# Altium schematic symbol library schematic_library.SchLib: 31 symbols
Pins are listed as number, name and electrical type; pins without a type are passive.

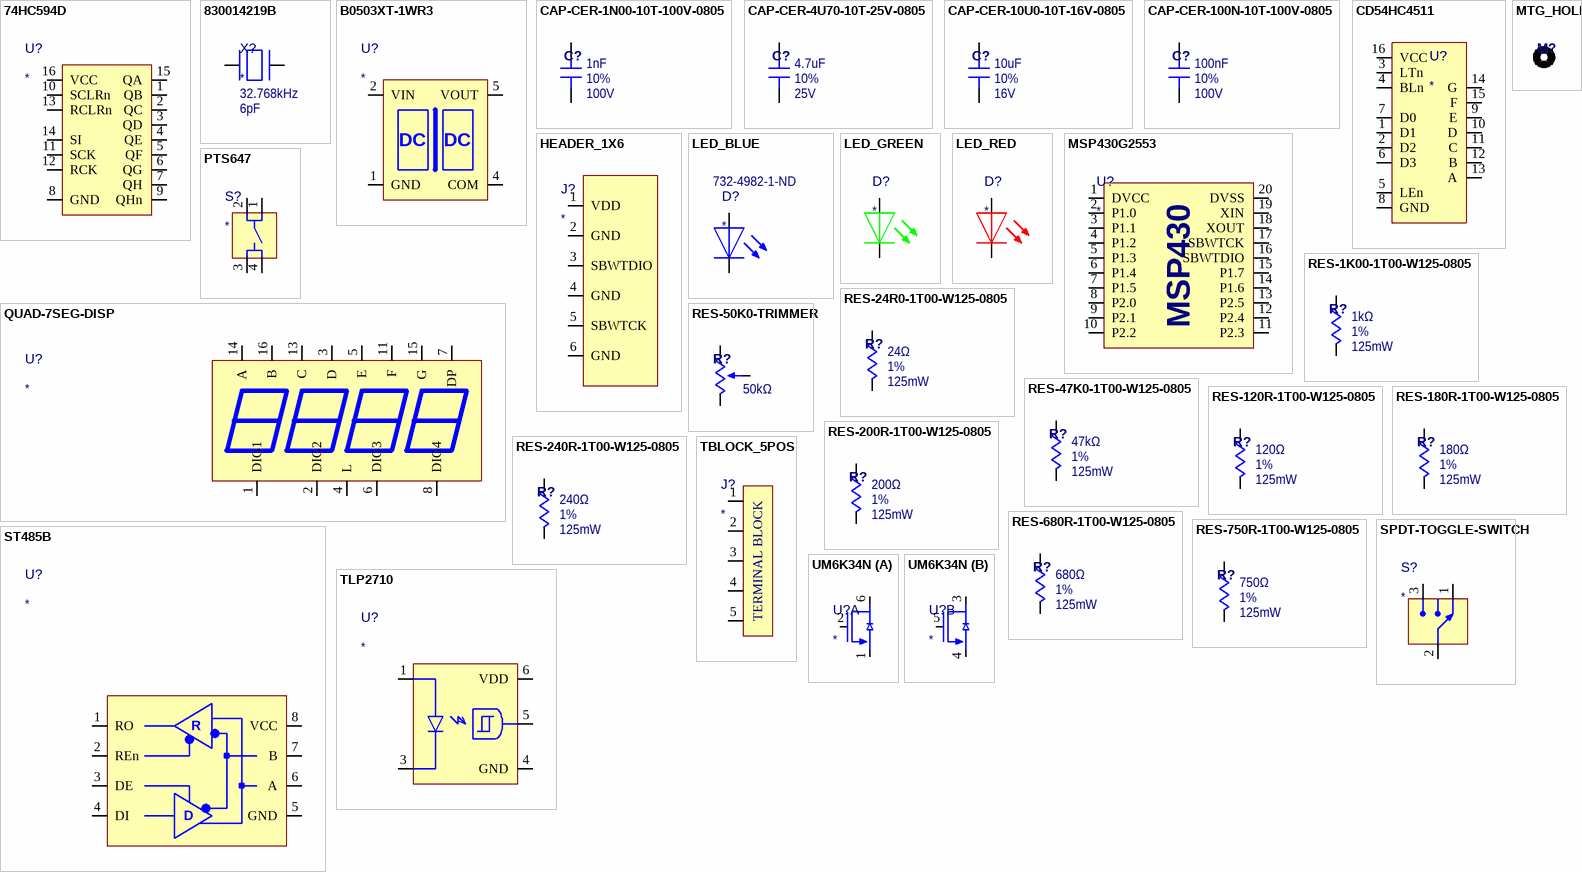
[diagram p0: symbols 74HC594D to UM6K34N]

## 74HC594D
designator U?
Shift Register, 8-Bit; Supplier 1: Digi-Key; Supplier Part Number 1: 74HC594DCT-ND
footprint 74HC594D_SOIC-16 (SOIC, 16-Leads, Body 9.95x3.90mm, Pitch 1.27mm, IPC Low Density)
pins: 1 QB, 2 QC, 3 QD, 4 QE, 5 QF, 6 QG, 7 QH, 8 GND, 9 QHn, 10 SCLRn, 11 SCK, 12 RCK, 13 RCLRn, 14 SI, 15 QA, 16 VCC

## 830014219B
designator X?  Capacitance: 6pF  Frequency: 32.768kHz
32.768kHz Tuning Fork Crystal, 6pF; Supplier 1: Digi-Key; Supplier Part Number 1: 1923-830014219B-ND
footprint CRYSTAL_THT_2x6
pins: 1, 2

## B0503XT-1WR3
designator U?
Isolated DC/DC, 5Vin, 3.3Vout, 300mA; Supplier 1: Digi-Key; Supplier Part Number 1: 2725-B0503XT-1WR3-ND
footprint B05_XT-1WR3 (CFP, 8-Leads, Body 13.70x8.75mm (max), Pitch 2.54mm, IPC Low Density)
pins: 1 GND, 2 VIN, 4 COM, 5 VOUT, 8 NC hidden
text: DC

## CAP-CER-1N00-10T-100V-0805
designator C?  value 1nF  Voltage: 100V  Tolerance: 10%  (hidden comment: *)
CAP, CER, 1nF ±10%, 100V, 0805; Supplier 1: Digi-Key; Supplier Part Number 1: 732-12102-1-ND
footprint C0805
pins: 1, 2

## CAP-CER-4U70-10T-25V-0805
designator C?  value 4.7uF  Voltage: 25V  Tolerance: 10%  (hidden comment: *)
CAP, CER, 4.7uF ±10%, 25V, 0805; Supplier 1: Digi-Key; Supplier Part Number 1: 1276-2969-1-ND
footprint C0805
pins: 1, 2

## CAP-CER-10U0-10T-16V-0805
designator C?  value 10uF  Voltage: 16V  Tolerance: 10%  (hidden comment: *)
CAP, CER, 10uF ±10%, 16V, 0805; Supplier 1: Digi-Key; Supplier Part Number 1: 1276-2872-1-ND
footprint C0805
pins: 1, 2

## CAP-CER-100N-10T-100V-0805
designator C?  value 100nF  Voltage: 100V  Tolerance: 10%  (hidden comment: *)
CAP, CER, 100nF ±10%, 100V, 0805; Supplier 1: Digi-Key; Supplier Part Number 1: 732-12244-1-ND
footprint C0805
pins: 1, 2

## CD54HC4511
designator U?
BCD Decoder, 7-Segment Display Driver; Supplier 1: Digi-Key; Supplier Part Number 1: 296-CD74HC4511MTCT-ND
footprint CD54HC4511_SOIC-16 (SOIC, 16-Leads, Body 9.90x3.90mm, Pitch 1.27mm, IPC Low Density)
pins: 1 D1, 2 D2, 3 LTn, 4 BLn, 5 LEn, 6 D3, 7 D0, 8 GND, 9 E, 10 D, 11 C, 12 B, 13 A, 14 G, 15 F, 16 VCC

## HEADER_1X6
designator J?
Header, 1-Row, 6-Position
footprint Header_1x6
pins: 1 VDD, 2 GND, 3 SBWTDIO, 4 GND, 5 SBWTCK, 6 GND

## LED_BLUE
designator D?  Supplier Part Number 1: 732-4982-1-ND
Blue LED Indicator 0805; Supplier 1: Digi-Key
footprint D0805
pins: 1, 2

## LED_GREEN
designator D?
Green LED Indicator 0805; Supplier 1: Digi-Key; Supplier Part Number 1: 732-4983-1-ND
footprint D0805
pins: 1, 2

## LED_RED
designator D?
Red LED Indicator 0805; Supplier 1: Digi-Key; Supplier Part Number 1: 732-4984-1-ND
footprint D0805
pins: 1, 2

## MSP430G2553
designator U?
MSP430 16-BIT, 16KB FLASH, 20-TSSOP; Supplier 1: Digi-Key; Supplier Part Number 1: 296-28430-1-ND
footprint MSP430G2553_TSSOP-20 (TSOP, 20-Leads, Body 6.50x4.40mm, Pitch 0.65mm, IPC Low Density)
pins: 1 DVCC, 2 P1.0, 3 P1.1, 4 P1.2, 5 P1.3, 6 P1.4, 7 P1.5, 8 P2.0, 9 P2.1, 10 P2.2, 11 P2.3, 12 P2.4, 13 P2.5, 14 P1.6, 15 P1.7, 16 SBWTDIO, 17 SBWTCK, 18 XOUT, 19 XIN, 20 DVSS
text: MSP430

## MTG_HOLE
designator M?  (value not drawn)  (no BOM)
Mounting Hole
footprint MTG_HOLE_No4

## PTS647
designator S?
PTS647 Series Tactile Switch; Supplier 1: Digi-Key; Supplier Part Number 1: PTS647SN70SMTR2LFSCT-ND
footprint PTS647
pins: 1, 2, 3, 4

## QUAD-7SEG-DISP
designator U?
Quad 7-Segment Display, Common Cathode; Supplier 1: Digi-Key; Supplier 2: Digi-Key; Supplier Part Number 2: 160-1547-5-ND; Supplier Part Number 1: 160-1551-5-ND
footprint LTC-4727 (Four Digit, Seven Segment Display)
pins: 1 DIG1, 2 DIG2, 3 D, 4 L, 5 E, 6 DIG3, 7 DP, 8 DIG4, 9 NC hidden, 11 F, 13 C, 14 A, 15 G, 16 B

## RES-1K00-1T00-W125-0805
designator R?  value 1kΩ  Tolerance: 1%  Power: 125mW  (hidden comment: *)
RES, 1.00kΩ ±1.00%, 125mW, 0805; Supplier 1: Digi-Key; Supplier Part Number 1: RMCF0805FT1K00CT-ND
footprint R0805
pins: 1, 2

## RES-24R0-1T00-W125-0805
designator R?  value 24Ω  Tolerance: 1%  Power: 125mW  (hidden comment: *)
RES, 24Ω ±1.00%, 125mW, 0805; Supplier 1: Digi-Key; Supplier Part Number 1: 541-24.0CCT-ND
footprint R0805
pins: 1, 2

## RES-47K0-1T00-W125-0805
designator R?  value 47kΩ  Tolerance: 1%  Power: 125mW  (hidden comment: *)
RES, 47.0kΩ ±1.00%, 125mW, 0805; Supplier 1: Digi-Key; Supplier Part Number 1: A129769CT-ND
footprint R0805
footprint R0805
pins: 1, 2

## RES-50K0-TRIMMER
designator R?  value 50kΩ  (hidden comment: *)
50kOhm Thumbwheel Potentiometer; Supplier 1: Digi-Key; Supplier Part Number 1: 3352T-503LF-ND
footprint 3352T_Trimpot
pins: 1, 2, 3

## RES-120R-1T00-W125-0805
designator R?  value 120Ω  Tolerance: 1%  Power: 125mW  (hidden comment: *)
RES, 120Ω ±1.00%, 125mW, 0805; Supplier 1: Digi-Key; Supplier Part Number 1: A129738CT-ND
footprint R0805
pins: 1, 2

## RES-180R-1T00-W125-0805
designator R?  value 180Ω  Tolerance: 1%  Power: 125mW  (hidden comment: *)
RES, 180Ω ±1.00%, 125mW, 0805; Supplier 1: Digi-Key; Supplier Part Number 1: 13-RT0805FRE07180RLCT-ND
footprint R0805
pins: 1, 2

## RES-200R-1T00-W125-0805
designator R?  value 200Ω  Tolerance: 1%  Power: 125mW  (hidden comment: *)
RES, 200Ω ±1.00%, 125mW, 0805; Supplier 1: Digi-Key; Supplier Part Number 1: 13-RT0805FRE07200RLCT-ND
footprint R0805
pins: 1, 2

## RES-240R-1T00-W125-0805
designator R?  value 240Ω  Tolerance: 1%  Power: 125mW  (hidden comment: *)
RES, 240Ω ±1.00%, 125mW, 0805; Supplier 1: Digi-Key; Supplier Part Number 1: RMCF0805FT240RCT-ND
footprint R0805
pins: 1, 2

## RES-680R-1T00-W125-0805
designator R?  value 680Ω  Tolerance: 1%  Power: 125mW  (hidden comment: *)
RES, 680Ω ±1.00%, 125mW, 0805; Supplier 1: Digi-Key; Supplier Part Number 1: RMCF0805FT680RCT-ND
footprint R0805
pins: 1, 2

## RES-750R-1T00-W125-0805
designator R?  value 750Ω  Tolerance: 1%  Power: 125mW  (hidden comment: *)
RES, 750Ω ±1.00%, 125mW, 0805; Supplier 1: Digi-Key; Supplier Part Number 1: 13-RT0805FRE07750RLCT-ND
footprint R0805
pins: 1, 2

## SPDT-TOGGLE-SWITCH
designator S?
SPDT Toggle Switch, On-Off-On, Through Hole; Supplier 1: Digi-Key; Supplier Part Number 1: 2449-AST13SNCQ-ND
footprint AST13SNCQ
pins: 1, 2, 3

## ST485B
designator U?
1/1 RS485 Transceiver, Half-Duplex; Supplier 1: Digi-Key; Supplier Part Number 1: 497-3733-1-ND
footprint ST485B_SO-8 (SOIC, 8-Leads, Body 4.90x3.90mm, Pitch 1.27mm, IPC Low Density)
pins: 1 RO, 2 REn, 3 DE, 4 DI, 5 GND, 6 A, 7 B, 8 VCC
text: R; D

## TBLOCK_5POS
designator J?
Screw Terminal Block, 5-Position
footprint TBLOCK_5POS
pins: 1, 2, 3, 4, 5
text: TERMINAL BLOCK

## TLP2710
designator U?
Logic Output Optoisolator 5MBd; Supplier 1: Digi-Key; Supplier Part Number 1: TLP2710(TP4ECT-ND
footprint TLP2710_SO-6L (SOIC, 6-Leads, Body 3.84x7.50mm, Pitch 1.27mm, IPC Low Density)
pins: 1 ANODE, 2 NC hidden, 3 CATHODE, 4 GND, 5 VO, 6 VDD

## UM6K34N
designator U?
NCH+NCH 50V 200mA Small Signal MOSFET; Supplier 1: Digi-Key; Supplier Part Number 1: UM6K34NTCNCT-ND
footprint UM6K34N_SC-88 (SOT23, 6-Leads, Body 2.00x2.10mm, Pitch 0.65mm, IPC Low Density)
part A pins: 1 S1, 2 G1, 6 D1
part B pins: 3 D2, 4 S2, 5 G2